# Altium integrated library Omron.IntLib: 2 symbols
Pins are listed as number, name and electrical type; pins without a type are passive.

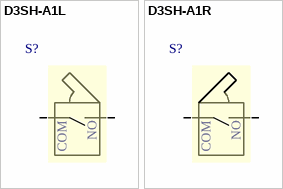
[diagram p0: symbols D3SH-A1L to D3SH-A1R]

## D3SH-A1L
designator S?  (value not drawn)
Switch SPST-NO Surface Mount, Right Angle; MF: Omron; Package: None; Digi-Key_Part_Number: SW1045CT-ND; MPN: D3SH-A1L; SnapEDA_Link: https://www.snapeda.com/parts/D3SH-A1L/Omron%20Electronics%20Inc-EMC%20Div/view-part/?ref=snap; Digi-Key_Purchase_URL: https://www.digikey.com/product-detail/en/omron-electronics-inc-emc-div/D3SH-A1L/SW1045CT-ND/1812196?utm_source=snapeda&utm_medium=aggregator&utm_campaign=symbol; Value: *
footprint SW_D3SH-A1L
pins: 1 COM, 2 NO

## D3SH-A1R
designator S?  (value not drawn)
Switch SPST-NO Surface Mount, Right Angle; MF: Omron; Package: None; Digi-Key_Part_Number: SW1045CT-ND; MPN: D3SH-A1R; SnapEDA_Link: https://www.snapeda.com/parts/D3SH-A1L/Omron%20Electronics%20Inc-EMC%20Div/view-part/?ref=snap; Digi-Key_Purchase_URL: https://www.digikey.com/product-detail/en/omron-electronics-inc-emc-div/D3SH-A1L/SW1045CT-ND/1812196?utm_source=snapeda&utm_medium=aggregator&utm_campaign=symbol; Value: *; Supplier 1: Digi-Key; Supplier Part Number 1: SW1043CT-ND
footprint SW_D3SH-A1R
pins: 1 COM, 2 NO